# Altium integrated library 3.5寸ILI9488TFT.IntLib: 7 symbols
Pins are listed as number, name and electrical type; pins without a type are passive.

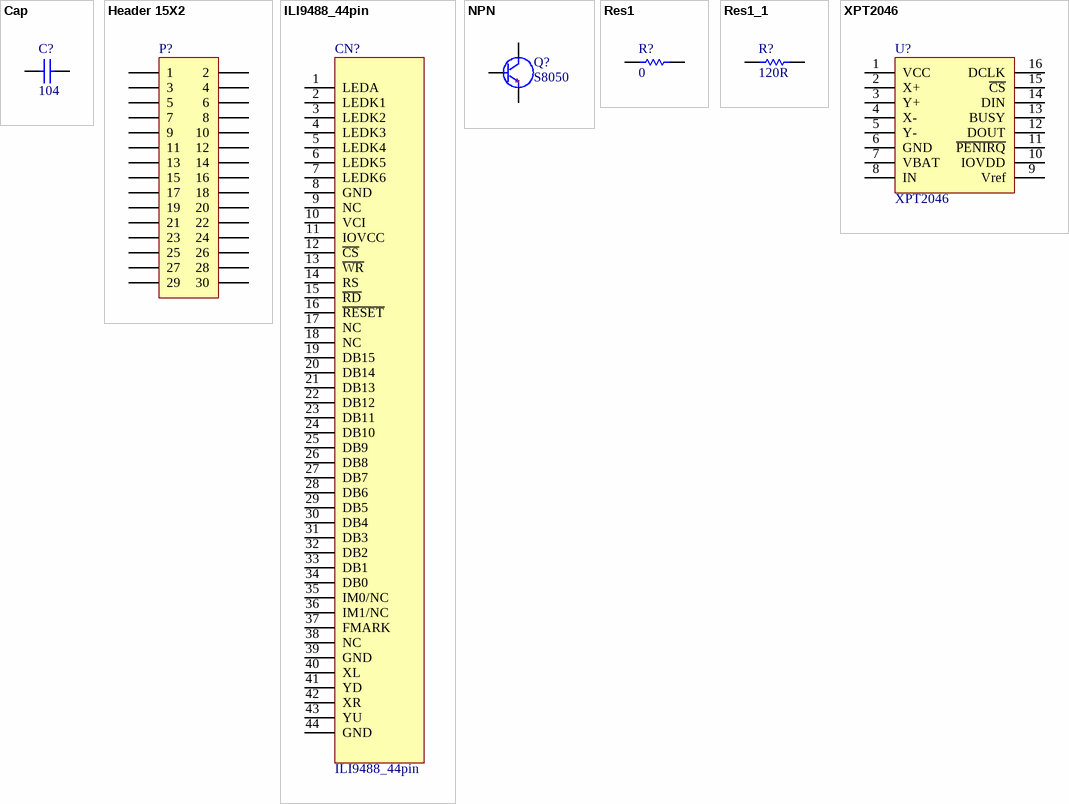
[diagram p0: symbols Cap to XPT2046]

## Cap
designator C?  value 104  (hidden comment: Cap)
Capacitor; Published: 8-Jun-2000; LatestRevisionDate: 17-Jul-2002; LatestRevisionNote: Re-released for DXP Platform.; Publisher: Altium Limited
footprint C_1
footprint CAPR2.54-5.1x3.2 (Capacitor, Ceramic, Thru-Hole, Dipped Radial; Body 5.1 x 3.2 mm (WxT) Pin Spacing 2.54 mm (typ))
footprint CAPR5.08-7.8x3.2 (Capacitor, Ceramic, Thru-Hole, Dipped Radial; Body 7.8 x 3.2 mm (WxT) Pin Spacing 5.08 mm (typ))
simulation model CAP (Capacitor)
signal-integrity model Cap
footprint 0603
pins: 1, 2

## Header 15X2
designator P?  (value not drawn)
Header, 15-Pin, Dual row; LatestRevisionDate: 17-Jul-2002; LatestRevisionNote: Re-released for DXP Platform.; Publisher: Altium Limited
footprint HDR2X15 (Connector; Header; 15x2 Position)
signal-integrity model Connector
footprint LCD_Module_30pin
pins: 1, 2, 3, 4, 5, 6, 7, 8, 9, 10, 11, 12, 13, 14, 15, 16, 17, 18, 19, 20, 21, 22, 23, 24, 25, 26, 27, 28, 29, 30

## ILI9488_44pin
designator CN?
3.5inchLCD
footprint LCD_ili9488_44pin
pins: 1 LEDA, 2 LEDK1, 3 LEDK2, 4 LEDK3, 5 LEDK4, 6 LEDK5, 7 LEDK6, 8 GND, 9 NC, 10 VCI, 11 IOVCC, 12 ~{CS}, 13 ~{WR}, 14 RS, 15 ~{RD}, 16 ~{RESET}, 17 NC, 18 NC, 19 DB15, 20 DB14, 21 DB13, 22 DB12, 23 DB11, 24 DB10, 25 DB9, 26 DB8, 27 DB7, 28 DB6, 29 DB5, 30 DB4, 31 DB3, 32 DB2, 33 DB1, 34 DB0, 35 IM0/NC, 36 IM1/NC, 37 FMARK, 38 NC, 39 GND, 40 XL, 41 YD, 42 XR, 43 YU, 44 GND

## NPN
designator Q?, comment S8050
footprint SOT-23-3L
pins: 1 B, 2 E, 3 C

## Res1
designator R?  value 0  (hidden comment: Res1)
Resistor; Published: 8-Jun-2000; LatestRevisionDate: 17-Jul-2002; LatestRevisionNote: Re-released for DXP Platform.; Publisher: Altium Limited
footprint AXIAL0.4
simulation model RESISTOR (Resistor)
signal-integrity model Res
footprint 0603
pins: 1, 2

## Res1_1
designator R?, comment value 120R  (hidden comment: Res1)
Resistor; Published: 8-Jun-2000; LatestRevisionDate: 17-Jul-2002; LatestRevisionNote: Re-released for DXP Platform.; Publisher: Altium Limited
footprint 0603
simulation model RESISTOR (Resistor)
signal-integrity model Res
pins: 1, 2

## XPT2046
designator U?
footprint TSSOP-16
pins: 1 VCC, 2 X+, 3 Y+, 4 X-, 5 Y-, 6 GND, 7 VBAT, 8 IN, 9 Vref, 10 IOVDD, 11 ~{PENIRQ}, 12 DOUT, 13 BUSY, 14 DIN, 15 ~{CS}, 16 DCLK